# EAGLE library part USB3 (library Connectors)
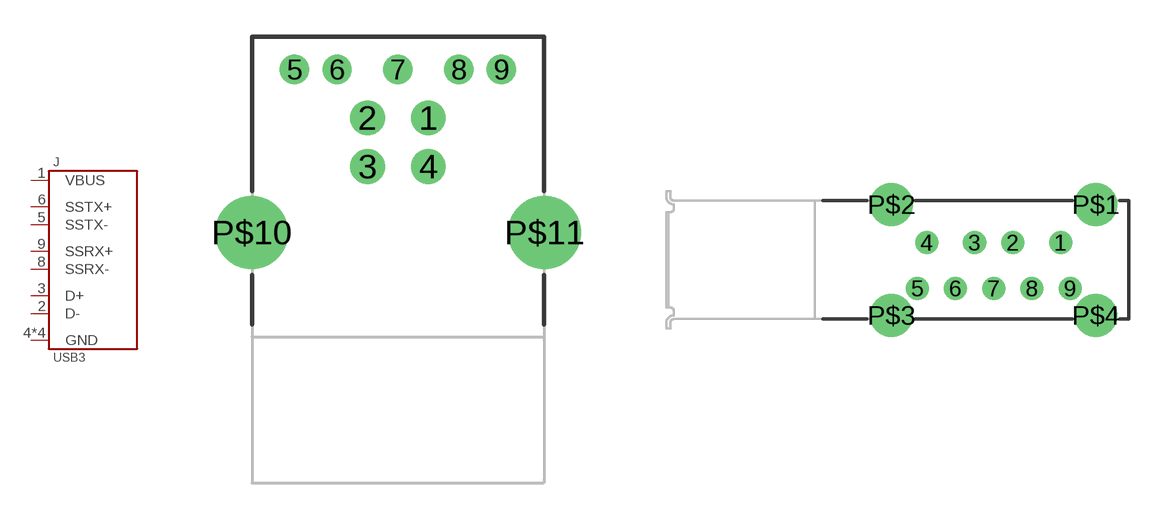
[diagram p24: symbol with the pads of GSB4211311WEU; footprints GSB4211311WEU, GSB4116341HR]

Designator prefix J

## USB3-B-PTH  [GSB4211311WEU]
1  VBUS
2  D-
3  D+
4  GND
5  SSTX-
6  SSTX+
7  GND
8  SSRX-
9  SSRX+
P$10  GND
P$11  GND

## USB3-A-VERT-R  [GSB4116341HR]
1  VBUS
2  D-
3  D+
4  GND
5  SSRX-
6  SSRX+
7  GND
8  SSTX-
9  SSTX+
P$1  GND
P$2  GND
P$3  GND
P$4  GND

## USB3-MICROB  [USB-MICROB-3.1]
1  VBUS
2  D-
3  D+
5  GND
6  SSTX-
7  SSTX+
8  GND
9  SSRX-
10  SSRX+
P$1  GND
P$2  GND
P$3  GND
P$4  GND
P$5  GND
P$6  GND

## USB3-A  [USB-A-3.0]
1  VBUS
2  D-
3  D+
4  GND
5  SSRX-
6  SSRX+
7  GND
8  SSTX-
9  SSTX+
P$1  GND
P$2  GND

## Footprint GSB4211311WEU (pad centres in mm)
drill 0.92: 1 1.25,-2; 2 -1.25,-2; 3 -1.25,-4; 4 1.25,-4
drill 0.7: 5 -4.25,0; 6 -2.5,0; 7 0,0; 8 2.5,0; 9 4.25,0
drill 2: P$10 -6.02,-6.71; P$11 6.02,-6.71

## Footprint GSB4116341HR (pad centres in mm)
drill 0.7 pad 1.1: 1 12.85,0.9; 2 10.35,0.9; 3 8.35,0.9; 4 5.85,0.9; 5 5.35,-1.5; 6 7.35,-1.5; 7 9.35,-1.5; 8 11.35,-1.5; 9 13.35,-1.5
drill 1.5 pad 2.1: P$1 14.7,2.9; P$2 4,2.9; P$3 4,-2.9; P$4 14.7,-2.9

## Footprint USB-MICROB-3.1 (pad centres in mm)
smd 1.5 x 0.4: 1 -0.25,3.975; 2 -0.25,3.325; 3 -0.25,2.675; 4 -0.25,2.025; 5 -0.25,1.375; 6 -0.25,-2.725; 7 -0.25,-3.375; 8 -0.25,-4.025; 9 -0.25,-4.675; 10 -0.25,-5.325
smd 1.9 x 1.8: P$1 -3,6.675; P$4 -3,-1.325; P$5 -3,-3.825
smd 1.9 x 1.9: P$2 -3,3.875; P$3 -3,1.475
smd 1.9 x 2.3: P$6 -3,-6.425

## Footprint USB-A-3.0 (pad centres in mm)
smd 2.78 x 0.8: 1 1.84,-3; 2 1.84,-1; 3 1.84,1; 4 1.84,3; 5 1.84,4; 6 1.84,2; 7 1.84,0; 8 1.84,-2; 9 1.84,-4
drill 0.9 pad 1.154: P$1 -1,5.85; P$2 -1,-5.85
hole 1.2 at -1,-2.25
hole 1.2 at -1,2.25